# EAGLE library part PEB_EDGE (library custom)
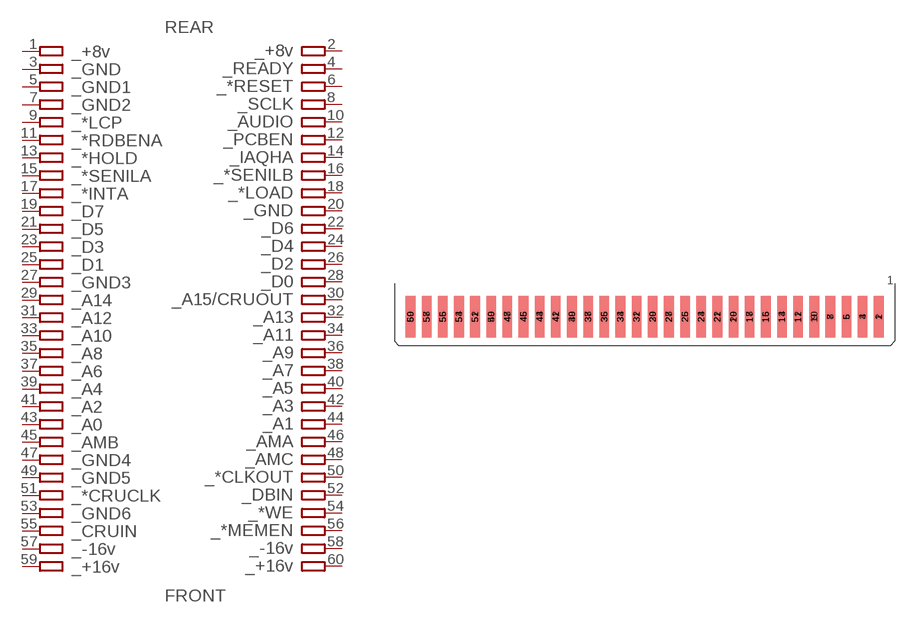
[diagram p2: symbol with the pads of 60PIN_EDGE; footprint 60PIN_EDGE]

Designator prefix CN

## PEB_EDGE  [60PIN_EDGE]
1  1
2  2
3  3
4  4
5  5
6  6
7  7
8  8
9  9
10  10
11  11
12  12
13  13
14  14
15  15
16  16
17  17
18  18
19  19
20  20
21  21
22  22
23  23
24  24
25  25
26  26
27  27
28  28
29  29
30  30
31  31
32  32
33  33
34  34
35  35
36  36
37  37
38  38
39  39
40  40
41  41
42  42
43  43
44  44
45  45
46  46
47  47
48  48
49  49
50  50
51  51
52  52
53  53
54  54
55  55
56  56
57  57
58  58
59  59
60  60

## Footprint 60PIN_EDGE (pad centres in mm)
smd 1.524 x 6.477 bottom: 1 76.2,-5.08; 3 73.66,-5.08; 5 71.12,-5.08; 7 68.58,-5.08; 9 66.04,-5.08; 11 63.5,-5.08; 13 60.96,-5.08; 15 58.42,-5.08; 17 55.88,-5.08; 19 53.34,-5.08; 21 50.8,-5.08; 23 48.26,-5.08; 25 45.72,-5.08; 27 43.18,-5.08; 29 40.64,-5.08; 31 38.1,-5.08; 33 35.56,-5.08; 35 33.02,-5.08; 37 30.48,-5.08; 39 27.94,-5.08; 41 25.4,-5.08; 43 22.86,-5.08; 45 20.32,-5.08; 47 17.78,-5.08; 49 15.24,-5.08; 51 12.7,-5.08; 53 10.16,-5.08; 55 7.62,-5.08; 57 5.08,-5.08; 59 2.54,-5.08
smd 1.524 x 6.477: 2 76.2,-5.08; 4 73.66,-5.08; 6 71.12,-5.08; 8 68.58,-5.08; 10 66.04,-5.08; 12 63.5,-5.08; 14 60.96,-5.08; 16 58.42,-5.08; 18 55.88,-5.08; 20 53.34,-5.08; 22 50.8,-5.08; 24 48.26,-5.08; 26 45.72,-5.08; 28 43.18,-5.08; 30 40.64,-5.08; 32 38.1,-5.08; 34 35.56,-5.08; 36 33.02,-5.08; 38 30.48,-5.08; 40 27.94,-5.08; 42 25.4,-5.08; 44 22.86,-5.08; 46 20.32,-5.08; 48 17.78,-5.08; 50 15.24,-5.08; 52 12.7,-5.08; 54 10.16,-5.08; 56 7.62,-5.08; 58 5.08,-5.08; 60 2.54,-5.08